# Altium schematic symbol library IND,8.2nH,540mA,Wirewound,0402.Schlib: 1 symbol
Pins are listed as number, name and electrical type; pins without a type are passive.

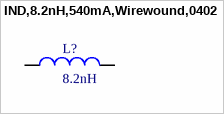
[diagram p0: symbol IND,8.2nH,540mA,Wirewound,0402]

## IND,8.2nH,540mA,Wirewound,0402
designator L?, comment 8.2nH
8.2nH Unshielded Wirewound Inductor 540mA 140mOhm Max 0402 (1005 Metric)
pins: 1, 2